# EAGLE library part LTC3721-1 (library PowerProducts)
Push-Pull PWM Controller
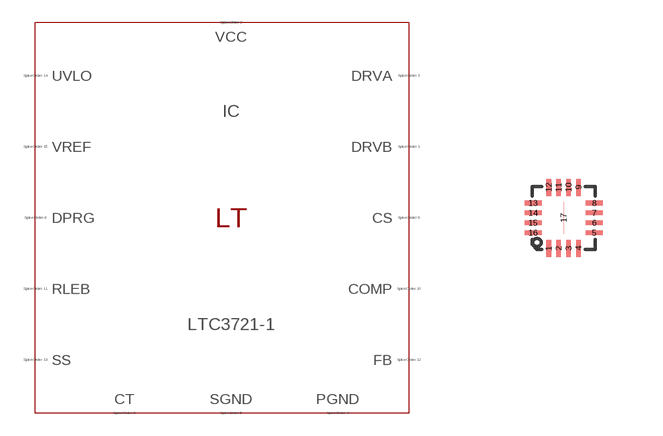
[diagram p297: symbol with the pads of QFN16(UF); footprint QFN16(UF)]

Designator prefix IC

## LTC3721-1 (SPICEMODEL: LTC3721-1.sub; SPICEPREFIX: X; VALUE2: LTC3721-1)  [QFN16(UF)]
1  DRVB  pas
2  VCC  pas
3  DRVA  pas
4  PGND  pas
5  SGND  pas
6  CT  pas
8  DPRG  pas
9  CS  pas
10  COMP  pas
11  RLEB  pas
12  FB  pas
13  SS  pas
14  UVLO  pas
15  VREF  pas
17  SGND  pas

## Footprint QFN16(UF) (pad centres in mm)
Package generated from: QFN16(UF).asc (!PADS-POWERPCB-V9.3-BASIC! DESIGN DATABASE ASCII FILE 1.0) with :import-pads-powerpcb-v5.ulp Version 1.0.1 at 04.10.2012 14:11:23
smd 0.116 x 0.426: 1 -0.371,-0.764; 2 -0.124,-0.764; 3 0.124,-0.764; 4 0.371,-0.764; 9 0.371,0.764; 10 0.124,0.764; 11 -0.124,0.764; 12 -0.371,0.764
smd 0.426 x 0.116: 5 0.764,-0.371; 6 0.764,-0.124; 7 0.764,0.124; 8 0.764,0.371; 13 -0.764,0.371; 14 -0.764,0.124; 15 -0.764,-0.124; 16 -0.764,-0.371
smd 0 x 0.819: 17 0,0